# Altium schematic symbol library TFTLCD_CONN.A2.SchLib: 1 symbol
Pins are listed as number, name and electrical type; pins without a type are passive.

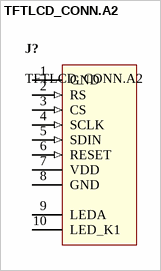
[diagram p0: symbol TFTLCD_CONN.A2]

## TFTLCD_CONN.A2
designator J?
TFT connector , 10pins
pins: 1 GND (power), 2 RS (in), 3 CS (in), 4 SCLK (in), 5 SDIN (in), 6 RESET (in), 7 VDD (power), 8 GND (power), 9 LEDA, 10 LED_K1